# Altium footprint library HSBNE-Vend.PcbLib: 47 footprints (part 3 of 3)
Each footprint in its own frame and in the unit in brackets; x right, y up, seen from the top. Pads: shape width x height; smd on the part's side, far side on the other; paste and mask are expansions set on the pad; w line width, h text height; cw(c..) or ccw(c..) is an arc to the next point about the centre after c.
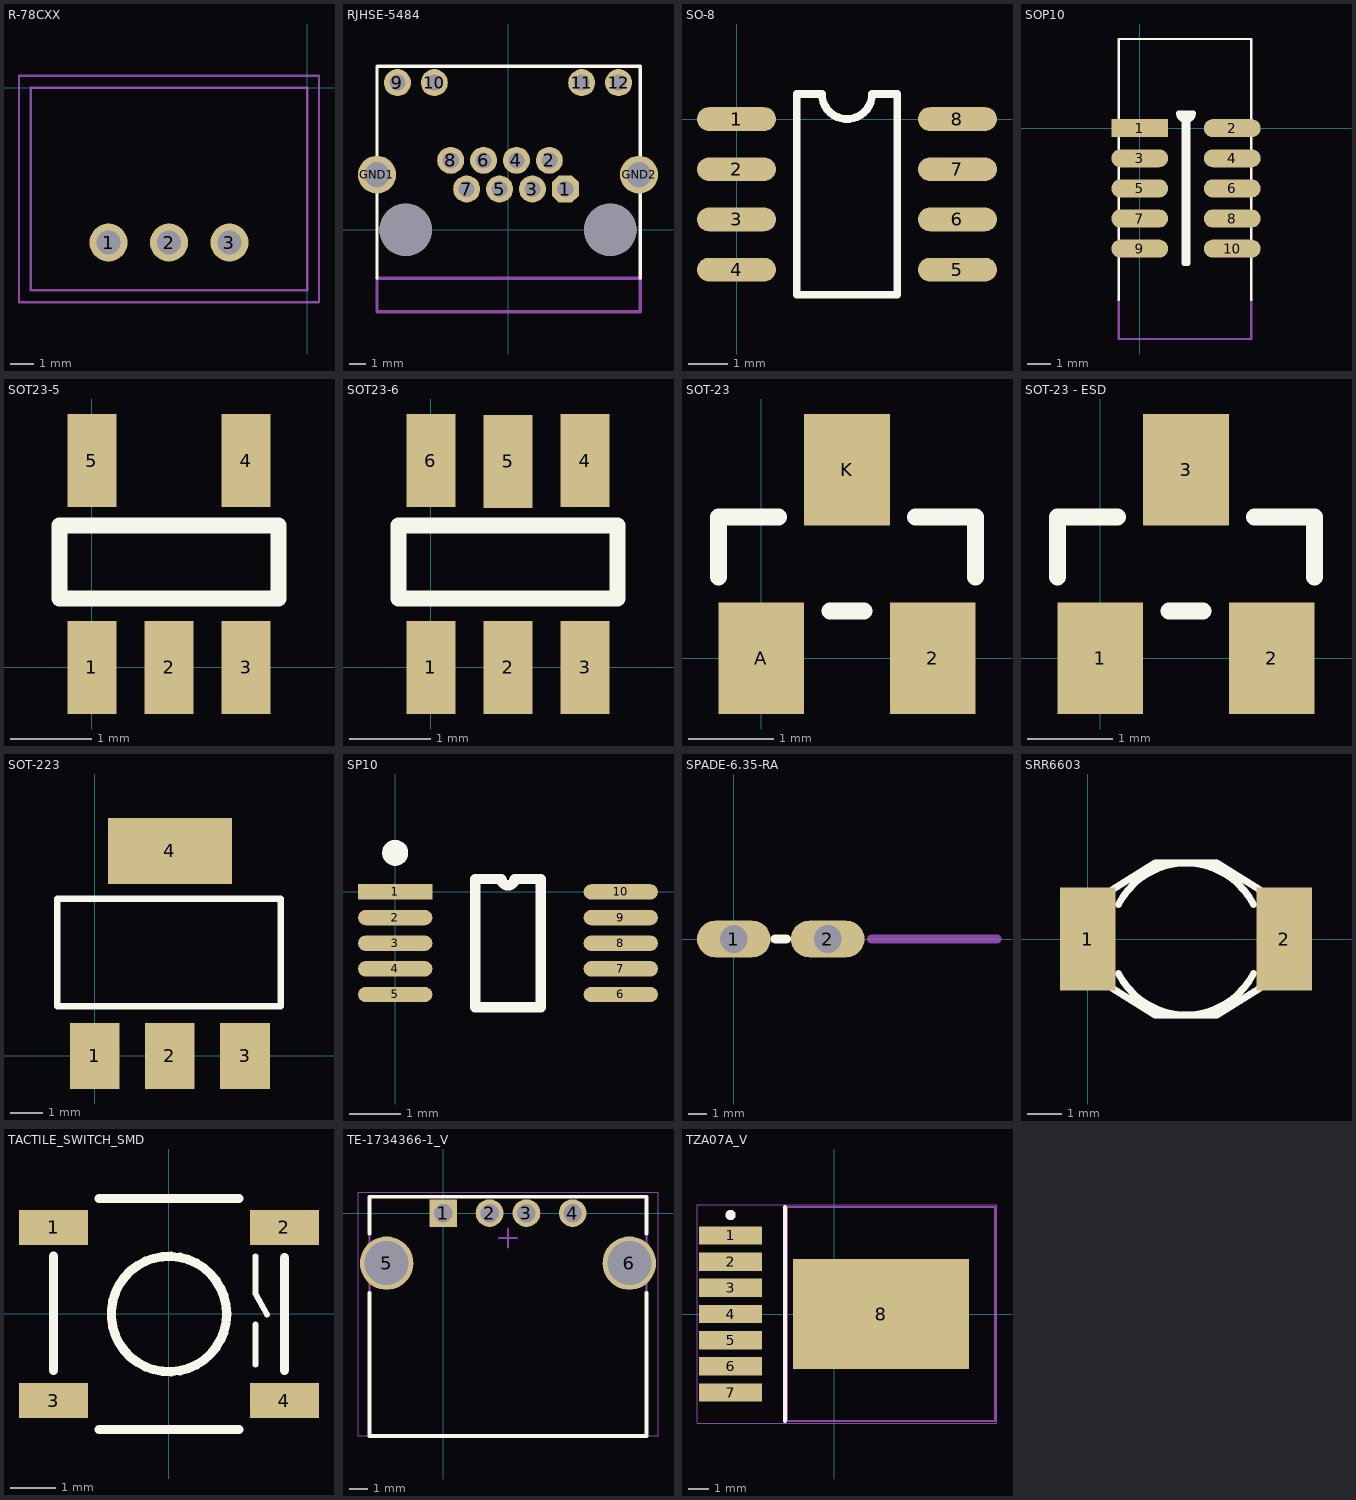
[diagram p2: the footprints below, top view; thin cyan lines are the x and y axes]

## R-78CXX [mm] "CONV DC/DC 1A 5V OUT SIP VERT"
height 10.4
pads (3):
  round 1.6 hole 1: 1(-8.34,-6.5) 2(-5.8,-6.5) 3(-3.26,-6.5)
Mechanical 13:
  lines w0.1: -11.6,-8.5 0,-8.5 0,0 -11.6,0 -11.6,-8.5
Mechanical 15:
  lines w0.1: -12.1,-9 0.5,-9 0.5,0.5 -12.1,0.5 -12.1,-9
3D body: height 13, standoff 0, extent -11.6,-8.5 0,0

## RJHSE-5484 [mm]
pads (16):
  oct 1.676x1.676 hole 1: 1(3.555,2.54)
  round 1.676 hole 1: 2(2.565,4.32) 3(1.515,2.54) 4(0.525,4.32) 5(-0.525,2.54) 6(-1.515,4.32) 7(-2.565,2.54) 8(-3.555,4.32) 9(-6.86,9.14) 10(-4.57,9.14) 11(4.57,9.14) 12(6.86,9.14)
  round 2.355 hole 1.57: GND1(-8.13,3.43) GND2(8.13,3.43)
  round 3.25 hole 3.25 unplated: ""(-6.35,0) ""(6.35,0)
Top Overlay:
  lines w0.203: -8.13,-3 -8.13,10.16 8.2,10.16 8.2,-3
Mechanical 1:
  lines w0.203: -8.13,-5.08 -8.13,-3 8.2,-3 8.2,-5.08 -8.13,-5.08
3D body "User Library-User Library-Rj45-1.STEP": height 14.75, standoff -3.68, extent -8.355,-5.961 8.355,10.289

## SO-8 [mm]
pads (8):
  oval 2x0.6 smd: 1(0,0) 2(0,-1.27) 3(0,-2.54) 4(0,-3.81) 5(5.588,-3.81) 6(5.588,-2.54) 7(5.588,-1.27) 8(5.588,0)
Top Overlay:
  lines w0.2: 1.524,-4.445 1.524,0.635 2.159,0.635 ccw(c2.794,0.635) 3.429,0.635 4.064,0.635 4.064,-4.445 1.524,-4.445
3D body "CircuitWorks-SO-8.step": height 1.45, standoff 0, extent -0.095,-4.318 5.683,0.584

## SOP10 [mm]
pads (10):
  rect 2.4x0.76 smd: 1(0,0)
  oval 2.4x0.76 smd: 2(3.9,0) 3(0,-1.27) 4(3.9,-1.27) 5(0,-2.54) 6(3.9,-2.54) 7(0,-3.81) 8(3.9,-3.81) 9(0,-5.08) 10(3.9,-5.08)
Top Overlay:
  lines w0.1: -0.889,-7.239 -0.889,3.76 4.699,3.76 4.699,-7.239
  lines w0.2: 1.632,0.635 ccw(c1.95,0.635) 2.267,0.635 1.865,0.635 1.865,-5.715 2.035,-5.715 2.035,0.635 1.632,0.635
Mechanical 1:
  lines w0.1: -0.889,-7.239 -0.889,-8.89 4.699,-8.89 4.699,-7.239
3D body "Samtec-TFM-105-02-X-D.STEP": height 5.59, standoff -0.15, extent -1.143,-7.239 4.826,2.286

## SOT23-5 [mm]
pads (5):
  rect 0.6x1.15 smd: 1(0,0) 2(0.95,0) 3(1.9,0) 4(1.9,2.55) 5(0,2.55)
Top Overlay:
  lines w0.2: -0.4,0.85 2.3,0.85 2.3,1.75 -0.4,1.75 -0.4,0.85

## SOT23-6 [mm]
pads (6):
  rect 0.6x1.15 smd: 1(0,0) 2(0.95,0) 3(1.9,0) 4(1.9,2.55) 5(0.95,2.54) 6(0,2.55)
Top Overlay:
  lines w0.2: -0.4,0.85 -0.4,1.75 2.3,1.75 2.3,0.85 -0.4,0.85
3D body: height 0.5, standoff 0, extent -0.508,0.635 2.413,2.032

## SOT-23 [mm]
pads (3):
  rect 1x1.3 smd: 2(2,0) A(0,0) K(1,2.2)
Top Overlay:
  lines w0.2: -0.5,0.95 -0.5,1.65 0.2,1.65 ; 0.8,0.55 1.2,0.55 ; 1.8,1.65 2.5,1.65 2.5,0.95

## SOT-23 - ESD [mm]
pads (3):
  rect 1x1.3 smd: 1(0,0) 2(2,0) 3(1,2.2)
Top Overlay:
  lines w0.2: -0.5,0.95 -0.5,1.65 0.2,1.65 ; 0.8,0.55 1.2,0.55 ; 1.8,1.65 2.5,1.65 2.5,0.95
3D body: height 1, standoff 0, extent -0.635,0.508 2.54,1.778

## SOT-223 [mil]
pads (4):
  rect 60x80 smd: 1(0,0) 2(91,0) 3(182,0)
  rect 150x80 smd: 4(91,248)
Top Overlay:
  lines w8: -45,60 225,60 225,190 -45,190 -45,60
3D body "SW3DPS-SOT-223-DEFAULT.STEP": height 62.99, standoff -3.15, extent -37.95,-7.01 217.95,267.01

## SP10 [mm]
pads (10):
  rect 1.45x0.3 smd: 1(0,0)
  oval 1.45x0.3 smd: 2(0,-0.5) 3(0,-1) 4(0,-1.5) 5(0,-2) 6(4.4,-2) 7(4.4,-1.5) 8(4.4,-1) 9(4.4,-0.5) 10(4.4,0)
Top Overlay:
  circle w0.254: c0,0.762 r0.127
  lines w0.2: 1.56,-2.25 2.84,-2.25 2.84,0.25 2.325,0.25 cw(c2.2,0.25) 2.075,0.25 1.56,0.25 1.56,-2.25
3D body "User Library-IPC SOSOP50P490X109-10N MO-187BA MUB10A.STEP": height 1.24, standoff 0, extent -0.319,-2.566 4.637,0.534

## SPADE-6.35-RA [mm]
height 1
pads (2):
  oval 4x2 hole 1.5: 1(0,0) 2(5.1,0)
Top Overlay:
  lines w0.5: 2.25,0 2.85,0
Mechanical 3:
  lines w0.5: 7.5,0 14.3,0
3D body "JST_TAB3867B.68(MSTIN).STEP": height 9, standoff -3, extent -1.369,-0.419 14.831,0.381

## SRR6603 [mm]
pads (2):
  rect 1.6x3 smd: 1(0,0) 2(5.7,0)
Top Overlay:
  lines w0.2: 0.722,-1.432 1.95,-2.2 3.75,-2.2 4.978,-1.432 ; 0.722,1.432 1.95,2.2 3.75,2.2 4.978,1.432 ; 0.893,-1.005 ccw(c2.85,0) 4.807,-1.005 ; 0.893,1.005 cw(c2.85,0) 4.807,1.005
Mechanical 3:
  lines w0.2: -0.45,-0.7 -0.45,0.7 1.95,2.2 3.75,2.2 6.15,0.7 6.15,-0.7 3.75,-2.2 1.95,-2.2 -0.45,-0.7
3D body: height 1, standoff 0, extent -0.451,-2.201 6.151,2.201
3D body: height 3, standoff 0, extent 0.651,-2.199 5.049,2.199

## TACTILE_SWITCH_SMD [mil]
pads (4):
  rect 60x30 smd: 1(-100,75) 2(100,75) 3(-100,-75) 4(100,-75)
Top Overlay:
  circle w8: c0,0 r50
  lines w5: 75,-43.9 75,-9.05 ; 75,50 75,17.52 85.04,-0.39
  lines w8: -100,-48.82 -100,50 ; -60.63,-100 60.63,-100 ; -60.63,100 60.63,100 ; 100,-48.82 100,48.82
3D body: height 70.87, standoff 0, extent -103.35,-108.27 103.35,103.35
3D body: height 122.05, standoff 0, extent -58.58,-58.93 59.06,58.94

## TE-1734366-1_V [mm] "Connector, 6-Leads, Body 7.62x15mm"
height 15
pads (6):
  rect 1.5x1.5 hole 1: 1(0,0)
  round 1.5 hole 1: 2(2.5,0) 3(4.5,0) 4(7,0)
  round 2.9 hole 2.38: 5(-3.07,-2.71) 6(10.07,-2.71)
Top Overlay:
  lines w0.2: -4,-4.309 -4,-12.065 11,-12.065 11,-4.309 ; -4,-1.111 -4,0.889 11,0.889 11,-1.111
Mechanical 13:
  lines w0.1: -4,-12.065 -4,0.889 11,0.889 11,-12.065 -4,-12.065
Mechanical 15:
  lines w0.05: -4.62,-12.065 -4.62,1.143 11.62,1.143 11.62,-12.065 -4.62,-12.065
  lines w0.1: 3,-1.355 4,-1.355 ; 3.5,-1.855 3.5,-0.855
3D body "M-UE27-AC54-100-REVT1.STEP": height 7.6, standoff -3.15, extent -3.867,-12.911 10.98,0.889

## TZA07A_V [mm] "D2-PAK, 8-Leads, Body 9.9x10.2mm, Pitch 1.27mm, Lead Span 13.8mm, NSC Recommended"
height 4.67
pads (8):
  rect 3.06x0.89 smd: 1(-5.03,3.81) 2(-5.03,2.54) 3(-5.03,1.27) 4(-5.03,0) 5(-5.03,-1.27) 6(-5.03,-2.54) 7(-5.03,-3.81)
  rect 8.54x5.35 smd: 8(2.28,0)
Top Overlay:
  circle w0.25: c-5.03,4.805 r0.125
  lines w0.2: -2.39,-5.2 -2.39,5.2
Mechanical 13:
  lines w0.1: -2.3,-5.2 7.801,-5.2 7.801,5.2 -2.3,5.2 -2.3,-5.2
Mechanical 15:
  lines w0.05: -6.66,-5.3 7.9,-5.3 7.9,5.3 -6.66,5.3 -6.66,-5.3
  lines w0.1: -0.5,0 0.5,0 ; 0,-0.5 0,0.5
3D body "User Library-TO-PMOD-7-1.step": height 4.57, standoff 0, extent -6.056,-5.08 7.719,5.08